# Altium footprint library Misc_ICs-1.PcbLib: 1 footprints
Each footprint in its own frame and in the unit in brackets; x right, y up, seen from the top. Pads: shape width x height; smd on the part's side, far side on the other; paste and mask are expansions set on the pad; w line width, h text height; cw(c..) or ccw(c..) is an arc to the next point about the centre after c.
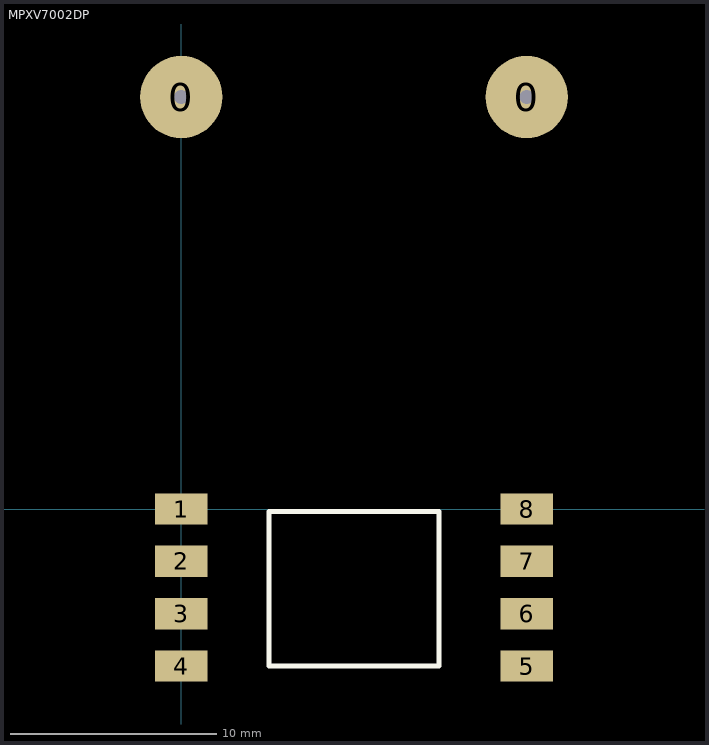
[diagram p0: the footprint, top view; thin cyan lines are the x and y axes]

## MPXV7002DP [mm]
pads (10):
  round 4 hole 0.7 unplated: 0(0,20) 0(16.76,20)
  rect 2.54x1.52 smd: 1(0,0) 2(0,-2.54) 3(0,-5.08) 4(0,-7.62) 5(16.76,-7.62) 6(16.76,-5.08) 7(16.76,-2.54) 8(16.76,0)
Top Overlay:
  lines w0.251: 4.255,-0.127 12.505,-0.127
  lines w0.254: 4.255,-0.127 4.255,-7.62 12.505,-7.62 12.505,-0.127
3D body "User Library-MPXV5004DP.step": height 10.27, standoff -0.62, extent -0.411,-9.845 17.175,8.575